# Altium schematic symbol library Sch_Bridges.SchLib: 1 symbol
Pins are listed as number, name and electrical type; pins without a type are passive.

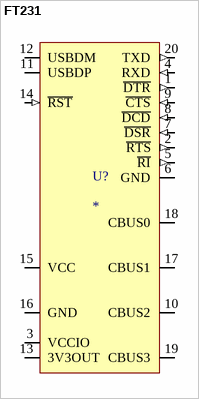
[diagram p0: symbol FT231]

## FT231
designator U?
Bridge UART-USB de FTDI. Version 20-LD SSOP package; Cod. Proveedor: *; Encapsulado: *; Link: *; Proveedor: *; Fabricante: *
footprint Bridge UART USB
pins: 1 ~{DTR} (out), 2 ~{RTS} (out), 3 VCCIO, 4 RXD (in), 5 ~{RI} (out), 6 GND, 7 ~{DSR} (in), 8 ~{DCD} (in), 9 ~{CTS} (in), 10 CBUS2, 11 USBDP (io), 12 USBDM (io), 13 3V3OUT, 14 ~{RST} (in), 15 VCC, 16 GND, 17 CBUS1, 18 CBUS0, 19 CBUS3, 20 TXD (out)